# EAGLE library part ADA4817-1L (library opamps)
ADA4817-1: Fast FET opamp (Analog Devices) with LFCSP-8 package and thermal pad ±15V, ±10mA, 165nA bias 300µV offset, 12MHz UGF, 1.8nV/rt(Hz) noise
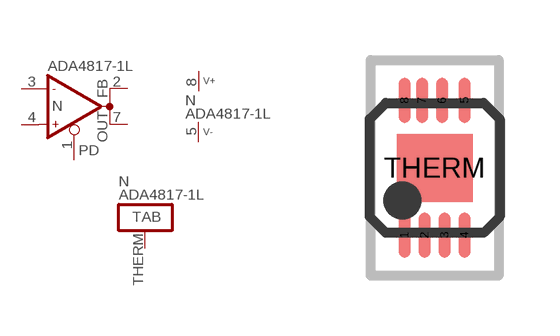
[diagram p283: symbol with the pads of LFCSP08; footprint LFCSP08]

Designator prefix N; gates A=OP-PD-FDBK P=V+- T=TAB

## ADA4817-1LS  [LFCSP08]
1  A:PD  in
2  A:FDBK  out
3  A:IN-  in
4  A:IN+  in
5  P:V-  pwr
7  A:OUT  out
8  P:V+  pwr
THERM  T:TAB

## Footprint LFCSP08 (pad centres in mm)
LFCSP-8, SMD package, 8 pins 0.5mm grid
smd 0.3 x 1.125: 1 -0.75,-1.688; 2 -0.25,-1.688; 3 0.25,-1.688; 4 0.75,-1.688; 5 0.75,1.688; 6 0.188,1.688; 7 -0.312,1.688; 8 -0.75,1.688
smd 1.9 x 1.7: THERM 0,0